# Altium schematic symbol library Schlib1.SchLib: 7 symbols
Pins are listed as number, name and electrical type; pins without a type are passive.

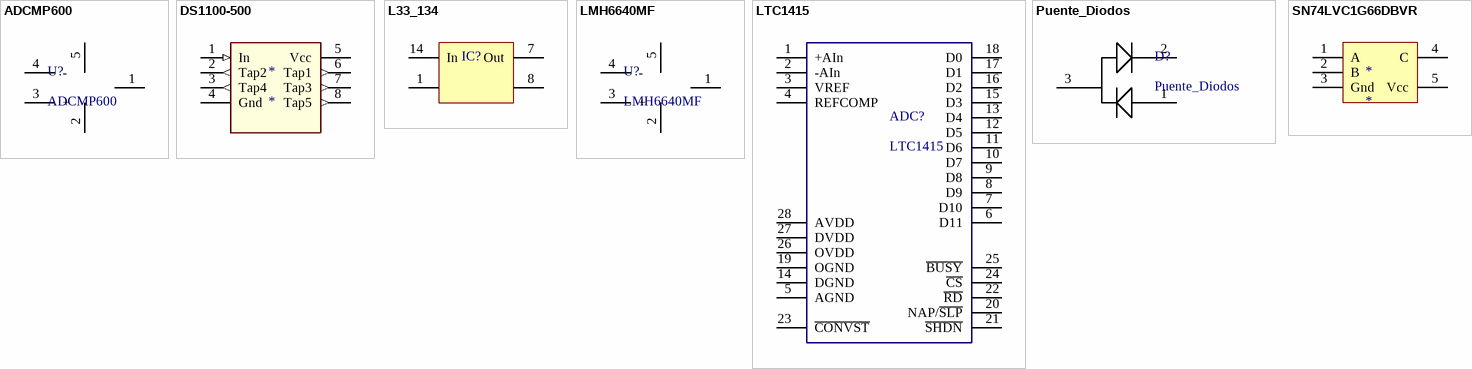
[diagram p0: symbols ADCMP600 to SN74LVC1G66DBVR]

## ADCMP600
designator U?
footprint SOT23-5_N (SOT23, 5-Leads, Body 2.9x1.6mm, Pitch 0.95mm, Lead Span 2.8mm, IPC Medium Density)
pins: 1, 2 (power), 3 +, 4 -, 5 (power)

## DS1100-500
designator *
footprint SO-8_L (8-Pin Small Outline Integrated Circuit 1.27 mm Pitch, IPC High Density)
pins: 1 In (in), 2 Tap2 (out), 3 Tap4 (out), 4 Gnd (power), 5 Vcc (power), 6 Tap1 (out), 7 Tap3 (out), 8 Tap5 (out)

## L33_134
designator IC?
footprint DIL14 (DIP; 14 Round Pins; Row Space 22.86 mm; Pitch 5.08 mm)
pins: 1  , 7 Out, 8, 14 In

## LMH6640MF
designator U?
footprint SOT23-5_N (SOT23, 5-Leads, Body 2.9x1.6mm, Pitch 0.95mm, Lead Span 2.8mm, IPC Medium Density)
pins: 1, 2 (power), 3 +, 4 -, 5 (power)

## LTC1415
designator ADC?
footprint SSOP28 (SSOP, Plastic; 28 Leads; Body Width 5.3 mm; Pitch 0.65 mm)
footprint SO28_N (28-Pin Plastic Small Outline Integrated Circuit 1.27 mm Pitch, IPC Medium Density)
pins: 1 +AIn, 2 -AIn, 3 VREF, 4 REFCOMP, 5 AGND, 6 D11, 7 D10, 8 D9, 9 D8, 10 D7, 11 D6, 12 D5, 13 D4, 14 DGND, 15 D3, 16 D2, 17 D1, 18 D0, 19 OGND, 20 NAP/~{SLP}, 21 ~{SHDN}, 22 ~{RD}, 23 ~{CONVST}, 24 ~{CS}, 25 ~{BUSY}, 26 OVDD, 27 DVDD, 28 AVDD

## Puente_Diodos
designator D?
footprint SOT-23B_N (Footprint not found)
pins: 1, 2, 3

## SN74LVC1G66DBVR
designator *
footprint SOT23-5_N (SOT23, 5-Leads, Body 2.9x1.6mm, Pitch 0.95mm, Lead Span 2.8mm, IPC Medium Density)
pins: 1 A, 2 B, 3 Gnd, 4 C, 5 Vcc